# EAGLE library part ACS712 (library stutz-components-library)
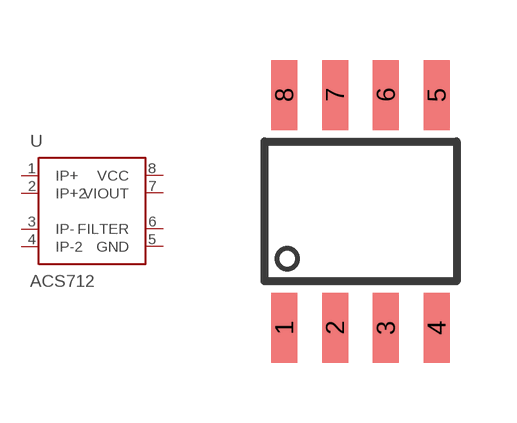
[diagram p13: symbol with the pads of SOIC8; footprint SOIC8]

Designator prefix -

## ACS712  [SOIC8]
1  IP+  pas
2  IP+2  pas
3  IP-  pas
4  IP-2  pas
5  GND  pwr
6  FILTER  pas
7  VIOUT  out
8  VCC  pwr

## Footprint SOIC8 (pad centres in mm)
smd 0.65 x 1.75: 1 -1.905,-2.915; 2 -0.635,-2.915; 3 0.635,-2.915; 4 1.905,-2.915; 5 1.905,2.915; 6 0.635,2.915; 7 -0.635,2.915; 8 -1.905,2.915